# Altium footprint library PCB - CONNECTOR - SAMTEC - SAMTEC SMA-J-P-H-ST-EM1.PCBLIB: 1 footprints
Each footprint in its own frame and in the unit in brackets; x right, y up, seen from the top. Pads: shape width x height; smd on the part's side, far side on the other; paste and mask are expansions set on the pad; w line width, h text height; cw(c..) or ccw(c..) is an arc to the next point about the centre after c.
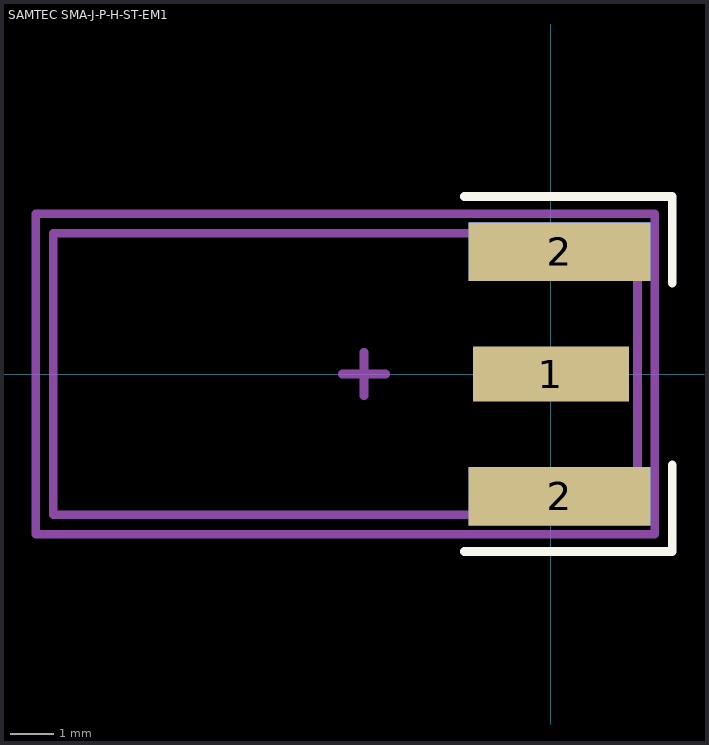
[diagram p0: the footprint, top view; thin cyan lines are the x and y axes]

## SAMTEC SMA-J-P-H-ST-EM1 [mm]
pads (5):
  rect 3.6x1.27 smd: 1(0,0)
  rect 4.2x1.35 smd: 2(0.2,-2.825) 2(0.2,2.825)
  rect 4.2x1.35 smd far side: 2(0.2,-2.825) 2(0.2,2.825)
Top Overlay:
  lines w0.2: -2,-4.1 2.8,-4.1 2.8,-2.1 ; -2,4.1 2.8,4.1 2.8,2.1
Mechanical 13:
  lines w0.2: -11.5,-3.25 2,-3.25 2,3.25 -11.5,3.25 -11.5,-3.25
Mechanical 15:
  lines w0.2: -4.818,0 -3.818,0 ; -4.318,-0.5 -4.318,0.5 ; -11.9,-3.7 2.4,-3.7 2.4,0 2.4,3.7 -11.9,3.7 -11.9,-3.7
3D body "Samtec SMA-J-P-H-ST-EM1.stp": height 3.67, standoff -2.68, extent -11.425,-3.175 1.905,3.175